# Altium schematic symbol library 373.SchLib: 1 symbol
Pins are listed as number, name and electrical type; pins without a type are passive.

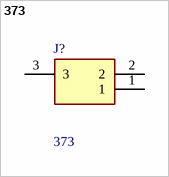
[diagram p0: symbol 373]

## 373
designator J?
Adafruit Accessories 2.1mm DC Barrel Jack Breadboard Friendly; Geometry.Height: 11.2mm; Mouser Part Number: 485-373; Mouser Price/Stock: https://www.mouser.co.uk/ProductDetail/Adafruit/373?qs=GURawfaeGuDDC%2FyE6Usrdw%3D%3D; Manufacturer_Name: Adafruit; Manufacturer_Part_Number: 373; Datasheet Link: https://cdn-shop.adafruit.com/datasheets/21mmdcjackDatasheet.pdf
footprint 373
pins: 1, 2, 3